# EAGLE library part HV5530 (library HV5530)
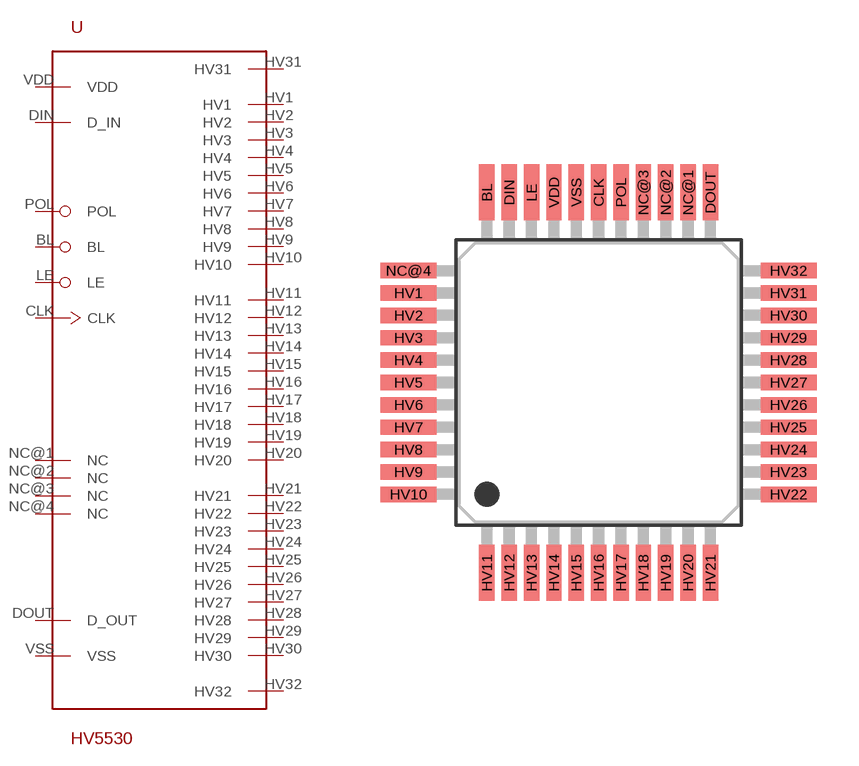
[diagram p0: symbol with the pads of 44_PQFP_CORRECTED; footprint 44_PQFP_CORRECTED]

Designator prefix -

## HV5530  [44_PQFP_CORRECTED]
BL  BL  in
CLK  CLK
DIN  D_IN  in
DOUT  D_OUT  out
HV1  HV1  out
HV2  HV2  out
HV3  HV3  out
HV4  HV4  out
HV5  HV5  out
HV6  HV6  out
HV7  HV7  out
HV8  HV8  out
HV9  HV9  out
HV10  HV10  out
HV11  HV11  out
HV12  HV12  out
HV13  HV13  out
HV14  HV14  out
HV15  HV15  out
HV16  HV16  out
HV17  HV17  out
HV18  HV18  out
HV19  HV19  out
HV20  HV20  out
HV21  HV21  out
HV22  HV22  out
HV23  HV23  out
HV24  HV24  out
HV25  HV25  out
HV26  HV26  out
HV27  HV27  out
HV28  HV28  out
HV29  HV29  out
HV30  HV30  out
HV31  HV31  out
HV32  HV32  out
LE  LE  in
NC@1  NC  nc
NC@2  NC  nc
NC@3  NC  nc
NC@4  NC  nc
POL  POL  in
VDD  VDD  pwr
VSS  VSS  pwr

## Footprint 44_PQFP_CORRECTED (pad centres in mm)
smd 0.55 x 2: BL -4,6.8; CLK 0,6.8; DIN -3.2,6.8; DOUT 4,6.8; HV11 -4,-6.8; HV12 -3.2,-6.8; HV13 -2.4,-6.8; HV14 -1.6,-6.8; HV15 -0.8,-6.8; HV16 0,-6.8; HV17 0.8,-6.8; HV18 1.6,-6.8; HV19 2.4,-6.8; HV20 3.2,-6.8; HV21 4,-6.8; LE -2.4,6.8; NC@1 3.2,6.8; NC@2 2.4,6.8; NC@3 1.6,6.8; POL 0.8,6.8; VDD -1.6,6.8; VSS -0.8,6.8
smd 2 x 0.55: HV1 -6.8,3.2; HV2 -6.8,2.4; HV3 -6.8,1.6; HV4 -6.8,0.8; HV5 -6.8,0; HV6 -6.8,-0.8; HV7 -6.8,-1.6; HV8 -6.8,-2.4; HV9 -6.8,-3.2; HV10 -6.8,-4; HV22 6.8,-4; HV23 6.8,-3.2; HV24 6.8,-2.4; HV25 6.8,-1.6; HV26 6.8,-0.8; HV27 6.8,0; HV28 6.8,0.8; HV29 6.8,1.6; HV30 6.8,2.4; HV31 6.8,3.2; HV32 6.8,4; NC@4 -6.8,4